# Altium schematic symbol library SCH - CONNECTORS - JAE MX34016NF1.SCHLIB: 1 symbol
Pins are listed as number, name and electrical type; pins without a type are passive.

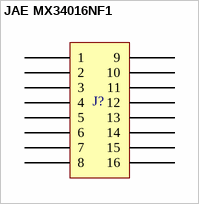
[diagram p0: symbol JAE MX34016NF1]

## JAE MX34016NF1
designator J?
pins: 1, 2, 3, 4, 5, 6, 7, 8, 9, 10, 11, 12, 13, 14, 15, 16